# Altium footprint library X.PcbLib: 77 footprints (part 2 of 5)
Each footprint in its own frame and in the unit in brackets; x right, y up, seen from the top. Pads: shape width x height; smd on the part's side, far side on the other; paste and mask are expansions set on the pad; w line width, h text height; cw(c..) or ccw(c..) is an arc to the next point about the centre after c.
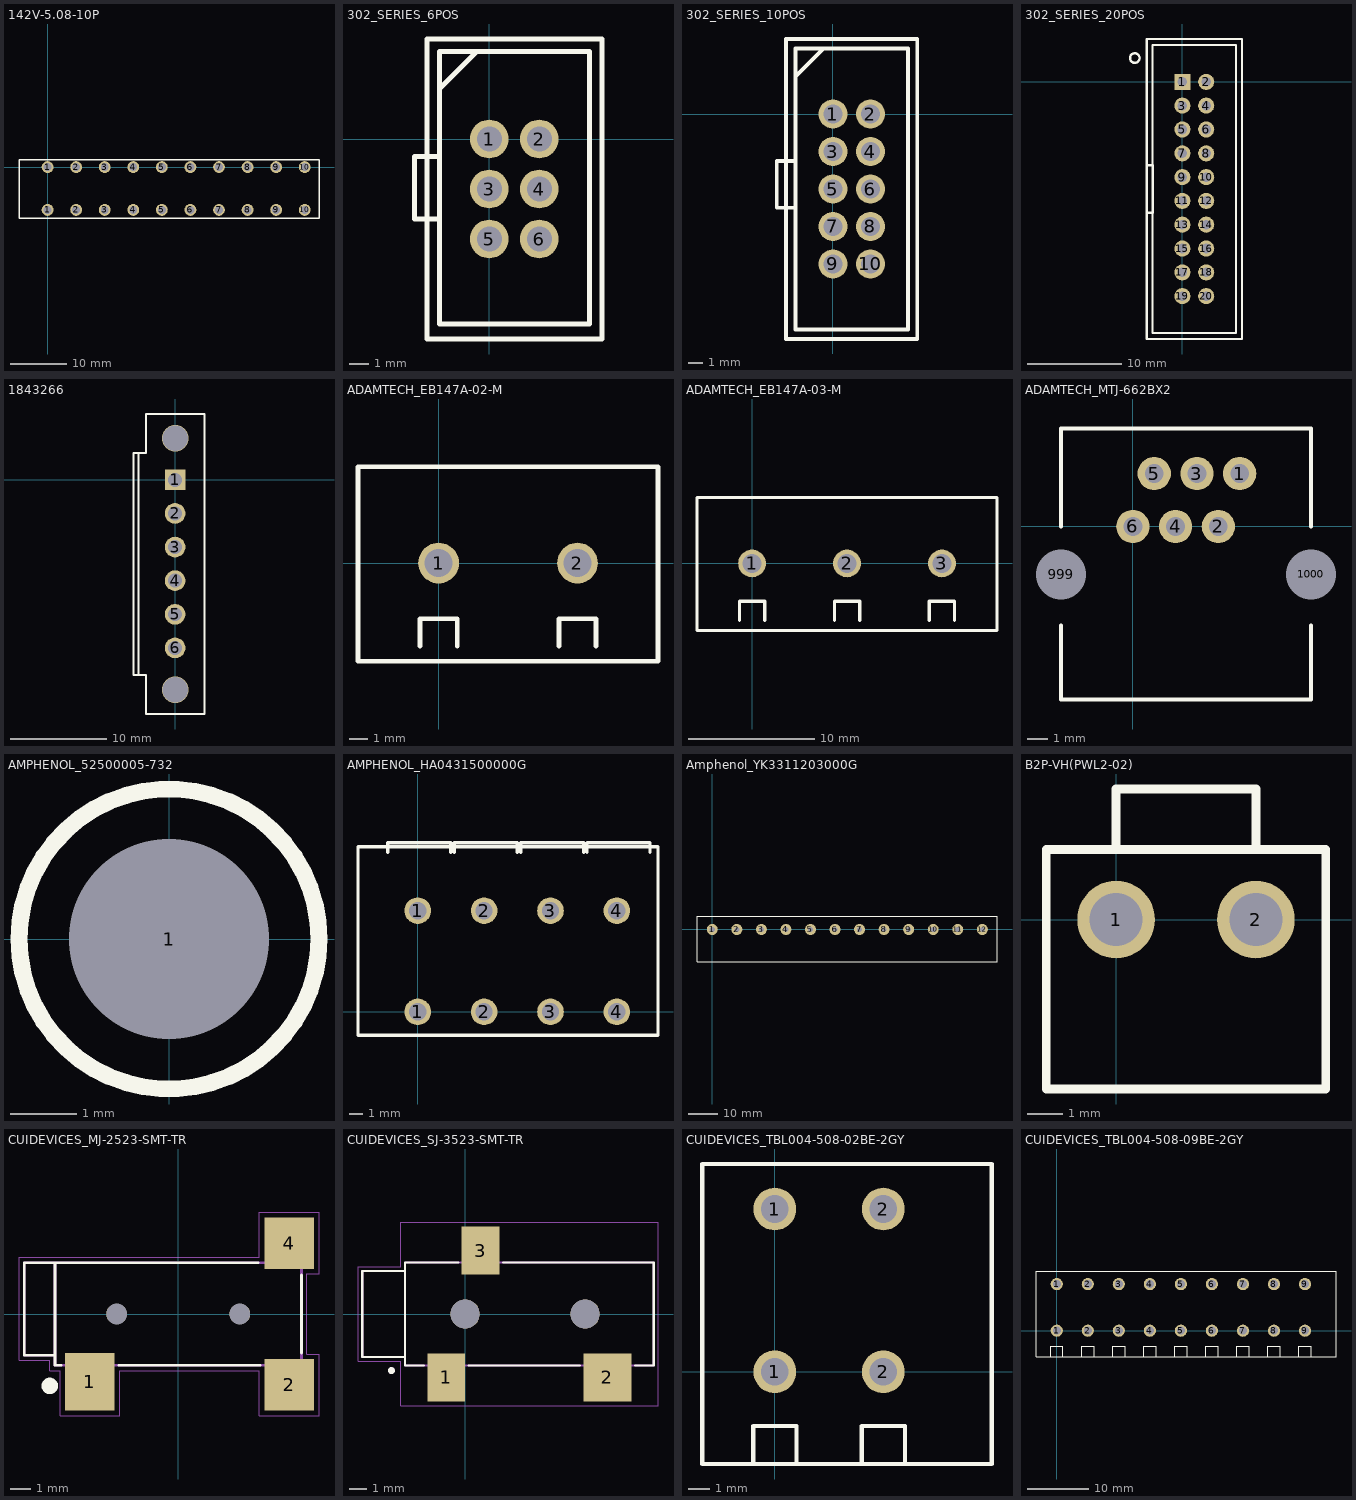
[diagram p1: the footprints below, top view; thin cyan lines are the x and y axes]

## 142V-5.08-10P [mm] "TERM BLOCK 10POS VERTICAL 5.08MM PCB"
height 14.1
pads (20):
  round 2.1 hole 1.4: 1(0,-7.62) 1(0,0) 2(5.08,-7.62) 2(5.08,0) 3(10.16,-7.62) 3(10.16,0) 4(15.24,-7.62) 4(15.24,0) 5(20.32,-7.62) 5(20.32,0) 6(25.4,-7.62) 6(25.4,0) 7(30.48,-7.62) 7(30.48,0) 8(35.56,-7.62) 8(35.56,0) 9(40.64,-7.62) 9(40.64,0) 10(45.72,-7.62) 10(45.72,0)
Top Overlay:
  lines w0.254: -5.08,-9.1 -5.08,1.3 48.26,1.3 48.26,-9.1 -5.08,-9.1
3D body: height 14.1, standoff 8, extent 2.54,-11.938 7.112,-8.89
3D body: height 14.1, standoff 8, extent 38.1,-11.938 42.672,-8.89
3D body: height 14.1, standoff 8, extent 43.18,-11.938 47.752,-8.89
3D body: height 14.1, standoff 8, extent 22.86,-11.938 27.432,-8.89
3D body: height 14.1, standoff 8, extent 12.7,-11.938 17.272,-8.89
3D body: height 14.1, standoff 8, extent 27.94,-11.938 32.512,-8.89
3D body: height 14.1, standoff 8, extent -2.54,-11.938 2.032,-8.89
3D body: height 14.1, standoff 8, extent 33.02,-11.938 37.592,-8.89
3D body: height 9, standoff 2, extent 38.1,-11.938 39.116,-8.89
3D body: height 9, standoff 2, extent 27.94,-11.938 28.956,-8.89
3D body: height 14.1, standoff 8, extent 17.78,-11.938 22.352,-8.89
3D body: height 9, standoff 2, extent 17.78,-11.938 18.796,-8.89
3D body: height 14.1, standoff 8, extent 7.62,-11.938 12.192,-8.89
3D body: height 9, standoff 2, extent 7.62,-11.938 8.636,-8.89
3D body: height 9, standoff 2, extent -2.54,-11.938 -1.524,-8.89
3D body: height 9, standoff 2, extent 43.18,-11.938 44.196,-8.89
3D body: height 9, standoff 2, extent 33.02,-11.938 34.036,-8.89
3D body: height 9, standoff 2, extent 22.86,-11.938 23.876,-8.89
3D body: height 9, standoff 2, extent 12.7,-11.938 13.716,-8.89
3D body: height 9, standoff 2, extent 2.54,-11.938 3.556,-8.89
3D body: height 14.1, standoff 0, extent -5.08,-9.1 48.26,1.3
3D body: height 14.2, standoff 14.1, extent 39.146,-7.847 42.134,-4.853
3D body: height 14.2, standoff 14.1, extent 13.746,-7.847 16.734,-4.853
3D body: height 14.2, standoff 14.1, extent 28.986,-7.847 31.974,-4.853
3D body: height 14.2, standoff 14.1, extent -1.494,-7.847 1.494,-4.853
3D body: height 14.2, standoff 14.1, extent 44.226,-7.847 47.214,-4.853
3D body: height 14.2, standoff 14.1, extent 34.066,-7.847 37.054,-4.853
3D body: height 14.2, standoff 14.1, extent 23.906,-7.847 26.894,-4.853
3D body: height 14.2, standoff 14.1, extent 18.826,-7.847 21.814,-4.853
3D body: height 14.2, standoff 14.1, extent 8.666,-7.847 11.654,-4.853
3D body: height 14.2, standoff 14.1, extent 3.586,-7.847 6.574,-4.853

## 302_SERIES_6POS [mm] "2.54MM DUAL ROW VERTICAL BOX HEADER"
pads (6):
  round 1.97 hole 1.27: 1(0,0) 2(2.54,0) 3(0,-2.54) 4(2.54,-2.54) 5(0,-5.08) 6(2.54,-5.08)
Top Overlay:
  lines w0.254: -2.54,-4.064 -3.175,-4.064 -3.81,-4.064 -3.81,-0.889 -3.175,-0.889 -2.54,-0.889 ; -2.54,2.54 -0.635,4.445 ; -3.175,-10.16 5.715,-10.16 5.715,5.08 -3.175,5.08 -3.175,-10.16 ; -2.54,-9.398 5.08,-9.398 5.08,4.445 -2.54,4.445 -2.54,-3.81 -2.54,-9.398

## 302_SERIES_10POS [mm] "2.54MM DUAL ROW VERTICAL BOX HEADER"
pads (10):
  round 1.97 hole 1.27: 1(0,0) 2(2.54,0) 3(0,-2.54) 4(2.54,-2.54) 5(0,-5.08) 6(2.54,-5.08) 7(0,-7.62) 8(2.54,-7.62) 9(0,-10.16) 10(2.54,-10.16)
Top Overlay:
  lines w0.254: -2.54,-6.35 -3.175,-6.35 -3.81,-6.35 -3.81,-3.175 -3.175,-3.175 -2.54,-3.175 ; -2.54,2.54 -0.635,4.445 ; -3.175,-15.24 5.715,-15.24 5.715,5.08 -3.175,5.08 -3.175,-15.24 ; -2.54,-14.605 5.08,-14.605 5.08,4.445 -2.54,4.445 -2.54,-3.81 -2.54,-14.605

## 302_SERIES_20POS [mm]
pads (20):
  rect 1.72x1.72 hole 1.02: 1(0,0)
  round 1.72 hole 1.02: 2(2.54,0) 3(0,-2.54) 4(2.54,-2.54) 5(0,-5.08) 6(2.54,-5.08) 7(0,-7.62) 8(2.54,-7.62) 9(0,-10.16) 10(2.54,-10.16) 11(0,-12.7) 12(2.54,-12.7) 13(0,-15.24) 14(2.54,-15.24) 15(0,-17.78) 16(2.54,-17.78) 17(0,-20.32) 18(2.54,-20.32) 19(0,-22.86) 20(2.54,-22.86)
Top Overlay:
  circle w0.254: c-5.08,2.54 r0.508
  lines w0.2: -3.175,-26.797 5.715,-26.797 5.715,3.937 -3.175,3.937 -3.175,-26.797
  lines w0.254: -3.81,-13.97 -3.175,-13.97 -3.175,-8.89 -3.81,-8.89 ; -3.81,-27.432 -3.81,4.572 6.35,4.572 6.35,-27.432 -3.81,-27.432

## 1843266 [mm]
pads (6):
  rect 2.15x2.15 hole 1.45: 1(0,0)
  round 2.15 hole 1.45: 2(0,-3.5) 3(0,-7) 4(0,-10.5) 5(0,-14) 6(0,-17.5)
via 0,-21.844 diameter 2.75 hole 2.65
via 0,4.318 diameter 2.75 hole 2.65
Top Overlay:
  lines w0.2: -3.81,-20.32 -3.81,2.794 ; -4.318,-20.32 -3.048,-20.32 -3.048,-24.384 3.048,-24.384 3.048,-21.844 3.048,6.858 0,6.858 -3.048,6.858 -3.048,2.794 -4.318,2.794 -4.318,-20.32
3D body: height 9.2, standoff 0, extent -4.318,-24.384 3.048,6.858

## ADAMTECH_EB147A-02-M [mm] "EURO BLOCK, 2 POSITION"
pads (2):
  round 2.2 hole 1.5: 1(0,0) 2(7.5,0)
Top Overlay:
  lines w0.254: -1,-4.5 -1,-3 1,-3 1,-4.5 ; 6.5,-4.5 6.5,-3 8.5,-3 8.5,-4.5 ; 11.85,0 11.85,-5.3 ; 11.85,-5.3 11.85,5.2 ; 11.85,-5.3 -4.354,-5.3 -4.354,5.2 11.85,5.2 ; 11.85,-5.3 11.85,5.2
3D body: height 15, standoff 0, extent -4.35,-5.292 11.85,1.725
3D body: height 11, standoff 0, extent -4.35,-5.275 11.85,5.192

## ADAMTECH_EB147A-03-M [mm] "EURO BLOCK, 3 POSITION"
pads (3):
  round 2.2 hole 1.5: 1(0,0) 2(7.5,0) 3(15,0)
Top Overlay:
  lines w0.254: -1,-4.5 -1,-3 1,-3 1,-4.5 ; 6.5,-4.5 6.5,-3 8.5,-3 8.5,-4.5 ; 14,-4.5 14,-3 16,-3 16,-4.5 ; -4.354,-5.3 19.35,-5.3 19.35,5.2 -4.354,5.2 -4.354,-5.3
3D body: height 15, standoff 0, extent -4.35,-5.3 19.325,1.725
3D body: height 11, standoff 0, extent -4.35,-5.275 19.35,5.2

## ADAMTECH_MTJ-662BX2 [mm] "CONN MOD JACK 6P6C R/A UNSHLD"
pads (8):
  round 1.6 hole 0.9: 1(5.125,2.54) 2(4.1,0) 3(3.075,2.54) 4(2.05,0) 5(1.025,2.54) 6(0,0)
  round 1.6 hole 2.4: 999(-3.45,-2.3) 1000(8.55,-2.3)
Top Overlay:
  lines w0.2: -3.45,-4.75 -3.45,-8.3 8.55,-8.3 8.55,-4.75 ; -3.45,0 -3.45,4.7 8.55,4.7 8.55,0
3D body: height 9.5, standoff 1, extent -2.3,-8.35 7.7,-5.65
3D body: height 1.5, standoff -3.5, extent 7.31,-3.547 9.8,-1.052
3D body: height 1.5, standoff -3.5, extent -4.69,-3.547 -2.2,-1.052
3D body: height 14.5, standoff 0, extent -3.45,-8.3 8.55,4.7

## AMPHENOL_52500005-732 [mm] "M2.5X0.45X8MM PANHEAD BLK"
pads (1):
  round 1.94 hole 3 unplated mask+0.2: 1(0,0)
Top Overlay:
  circle w0.254: c0,0 r2.25
3D body: height 0, standoff -8, extent -1.245,-1.247 1.245,1.248
3D body: height 1.7, standoff 0, extent -2.25,-2.246 2.25,2.247
3D body: height 4, standoff 0, extent 0,0 0,0

## AMPHENOL_HA0431500000G [mm] "TERM BLK 4POS SIDE ENTRY 5MM PCB"
pads (8):
  round 2 hole 1.3: 1(0,0) 1(0,7.62) 2(5,0) 2(5,7.62) 3(10,0) 3(10,7.62) 4(15,0) 4(15,7.62)
Top Overlay:
  lines w0.254: -2.25,12 -2.25,12.75 2.5,12.75 2.5,12 ; 2.75,12 2.75,12.75 7.5,12.75 7.5,12 ; 7.75,12 7.75,12.75 12.5,12.75 12.5,12 ; 12.75,12 12.75,12.75 17.5,12.75 17.5,12 ; -4.5,-1.778 -4.5,12.446 18.1,12.446 18.1,-1.778 -4.5,-1.778
3D body: height 13.3, standoff 10.4, extent 12.746,-0.694 17.496,12.75
3D body: height 13.3, standoff 10.4, extent 7.746,-0.694 12.496,12.75
3D body: height 13.3, standoff 10.4, extent -2.254,-0.694 2.496,12.75
3D body: height 13.3, standoff 10.4, extent 2.746,-0.694 7.496,12.75
3D body: height 10.4, standoff 0, extent -4.4,-1.55 18.1,12.2

## Amphenol_YK3311203000G [mm] "CONN BARRIER STRP 12CIRC 0.325\""
pads (12):
  round 3.7 hole 1.7: 1(0,0) 2(8.25,0) 3(16.5,0) 4(24.75,0) 5(33,0) 6(41.25,0) 7(49.5,0) 8(57.75,0) 9(66,0) 10(74.25,0) 11(82.5,0) 12(90.75,0)
Top Overlay:
  lines w0.2: -5.131,-10.82 -5.131,4.42 95.682,4.42 95.682,-10.82 -5.131,-10.82
3D body "c-1-1437649-5-t-3d.stp": height 13.35, standoff -4.05, extent -5.131,-10.82 95.679,4.42

## B2P-VH(PWL2-02) [mm]
pads (2):
  round 2.2 hole 1.5: 1(0,0) 2(3.96,0)
Top Overlay:
  lines w0.254: 0,1.98 0,3.7 3.96,3.7 3.96,1.98 ; -1.98,-4.8 -1.98,1.98 5.94,1.98 5.94,-4.8 -1.98,-4.8

## CUIDEVICES_MJ-2523-SMT-TR [mm] "CONN JACK MONO 2.5MM SMD R/A"
pads (5):
  rect 2.4x2.8 smd: 1(-4.3,-3.3)
  rect 2.4x2.5 smd: 2(5.4,-3.45) 4(5.4,3.45)
  round 1 hole 1 unplated: ""(-3,0) ""(3,0)
Top Overlay:
  circle w0.4: c-6.25,-3.5 r0.2
  lines w0.127: -5.7,-2.5 -6,-2.5 -6,-2 ; -2.9,-2.5 4,-2.5 ; 3.9,2.5 -6,2.5 ; 6,-1.9 6,1.9 ; -6,-2 -7.5,-2 -7.5,2.5 -6,2.5 ; -6,-2 -6,2.5
Body:
  circle w0.4: c-4.5,-4 r0.2
  lines w0.127: -6,-2 -7.5,-2 -7.5,2.5 -6,2.5 ; -6,-2 -6,-2.5 6,-2.5 6,2.5 -6,2.5 ; -6,-2 -6,2.5
Mechanical 15:
  lines w0.05: -7.75,-2.25 -7.75,2.75 3.95,2.75 3.95,4.95 6.85,4.95 6.85,1.95 6.25,1.95 6.25,-1.95 6.85,-1.95 6.85,-4.95 3.95,-4.95 3.95,-2.75 -2.85,-2.75 -2.85,-4.95 -5.75,-4.95 -5.75,-2.75 -6.25,-2.75 -6.25,-2.25 -7.75,-2.25
3D body "CUI_DEVICES_MJ-2523-SMT-TR.step": height 4.7, standoff -0.6, extent -7.5,-3.75 6,4.25

## CUIDEVICES_SJ-3523-SMT-TR [mm] "CONN JACK STEREO 3.5MM SMD R/A"
pads (5):
  rect 2.2x2.8 smd: 1(-1.1,-3.7) 3(0.9,3.7)
  rect 2.8x2.8 smd: 2(8.3,-3.7)
  round 1.7 hole 1.7 unplated: ""(0,0) ""(7,0)
Top Overlay:
  circle w0.2: c-4.3,-3.3 r0.1
  lines w0.127: -2.4,-3 -3.5,-3 -3.5,-2.5 ; -0.4,3 -3.5,3 -3.5,2.5 ; 0.2,-3 6.7,-3 ; 2.2,3 11,3 11,-3 9.9,-3 ; -3.5,-2.5 -6,-2.5 -6,2.5 -3.5,2.5 ; -3.5,-2.5 -3.5,2.5
Body:
  circle w0.2: c-4.3,-3.3 r0.1
  lines w0.127: -3.5,-2.5 -6,-2.5 -6,2.5 -3.5,2.5 ; -3.5,-3 11,-3 11,3 -3.5,3 -3.5,-3
Mechanical 15:
  lines w0.05: -6.25,-2.75 -3.75,-2.75 -3.75,-5.35 11.25,-5.35 11.25,5.35 -3.75,5.35 -3.75,2.75 -6.25,2.75 -6.25,-2.75
3D body "CUI_DEVICES_SJ-3523-SMT-TR.step": height 5, standoff -0.8, extent -5.96,-4.555 11.04,4.445

## CUIDEVICES_TBL004-508-02BE-2GY [mm] "TERMINAL BLOCK, SCREWLESS, 5.08"
pads (4):
  round 2 hole 1.3: 1(0,0) 1(0,7.62) 2(5.08,0) 2(5.08,7.62)
Top Overlay:
  lines w0.2: -1.016,-4.267 -1.016,-2.54 1.016,-2.54 1.016,-4.267 ; 4.064,-4.267 4.064,-2.54 6.096,-2.54 6.096,-4.267 ; 10.16,-4.318 -3.404,-4.318 -3.404,-1.524 -3.404,0 -3.404,9.144 -3.404,9.728 -3.378,9.728 0,9.728 10.16,9.728 ; 10.16,-4.267 10.16,9.652
3D body: height 10.4, standoff 0, extent -3.4,-4.3 10.16,9.7
3D body: height 13.3, standoff 10.4, extent 2.58,-5.13 7.33,4.12
3D body: height 13.3, standoff 10.4, extent 6.33,-1.13 7.33,8.12
3D body: height 13.3, standoff 10.4, extent -2.5,-5.13 2.25,4.12
3D body: height 13.3, standoff 10.4, extent 1.25,-1.13 2.25,8.12

## CUIDEVICES_TBL004-508-09BE-2GY [mm] "TERMINAL BLOCK, SCREWLESS, 5.08"
pads (18):
  round 2 hole 1.3: 1(0,0) 1(0,7.62) 2(5.08,0) 2(5.08,7.62) 3(10.16,0) 3(10.16,7.62) 4(15.24,0) 4(15.24,7.62) 5(20.32,0) 5(20.32,7.62) 6(25.4,0) 6(25.4,7.62) 7(30.48,0) 7(30.48,7.62) 8(35.56,0) 8(35.56,7.62) 9(40.64,0) 9(40.64,7.62)
Top Overlay:
  lines w0.2: -1.016,-4.267 -1.016,-2.54 1.016,-2.54 1.016,-4.267 ; 4.064,-4.267 4.064,-2.54 6.096,-2.54 6.096,-4.267 ; 9.144,-4.267 9.144,-2.54 11.176,-2.54 11.176,-4.267 ; 14.224,-4.267 14.224,-2.54 16.256,-2.54 16.256,-4.267 ; 19.304,-4.267 19.304,-2.54 21.336,-2.54 21.336,-4.267 ; 24.384,-4.267 24.384,-2.54 26.416,-2.54 26.416,-4.267 ; 29.464,-4.267 29.464,-2.54 31.496,-2.54 31.496,-4.267 ; 34.544,-4.267 34.544,-2.54 36.576,-2.54 36.576,-4.267 ; 39.624,-4.267 39.624,-2.54 41.656,-2.54 41.656,-4.267 ; 45.72,-1.524 45.72,9.144 45.72,9.728 ; 45.72,9.728 45.72,-4.267 42.24,-4.267 -3.404,-4.267 -3.404,-1.524 -3.404,0 -3.404,9.144 -3.404,9.728 -3.378,9.728 0,9.728 45.72,9.728
3D body: height 13.3, standoff 10.4, extent 1.25,-1.13 2.25,8.12
3D body: height 13.3, standoff 10.4, extent -2.5,-5.13 2.25,4.12
3D body: height 13.3, standoff 10.4, extent 6.33,-1.13 7.33,8.12
3D body: height 13.3, standoff 10.4, extent 2.58,-5.13 7.33,4.12
3D body: height 13.3, standoff 10.4, extent 11.41,-1.13 12.41,8.12
3D body: height 13.3, standoff 10.4, extent 7.66,-5.13 12.41,4.12
3D body: height 13.3, standoff 10.4, extent 16.49,-1.13 17.49,8.12
3D body: height 13.3, standoff 10.4, extent 12.74,-5.13 17.49,4.12
3D body: height 13.3, standoff 10.4, extent 21.57,-1.13 22.57,8.12
3D body: height 13.3, standoff 10.4, extent 17.82,-5.13 22.57,4.12
3D body: height 13.3, standoff 10.4, extent 26.65,-1.13 27.65,8.12
3D body: height 13.3, standoff 10.4, extent 22.9,-5.13 27.65,4.12
3D body: height 13.3, standoff 10.4, extent 31.73,-1.13 32.73,8.12
3D body: height 13.3, standoff 10.4, extent 27.98,-5.13 32.73,4.12
3D body: height 13.3, standoff 10.4, extent 36.81,-1.13 37.81,8.12
3D body: height 13.3, standoff 10.4, extent 33.06,-5.13 37.81,4.12
3D body: height 13.3, standoff 10.4, extent 41.89,-1.13 42.89,8.12
3D body: height 13.3, standoff 10.4, extent 38.14,-5.13 42.89,4.12
3D body: height 10.4, standoff 0, extent -3.4,-4.3 45.7,9.7